# Altium schematic symbol library PCB_Connector_Sch.SchLib: 3 symbols
Pins are listed as number, name and electrical type; pins without a type are passive.

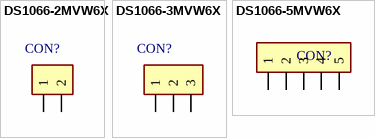
[diagram p0: symbols DS1066-2MVW6X to DS1066-5MVW6X]

## DS1066-2MVW6X
designator CON?
CON.T.B.2.00MM 2P 180C MALE CONNFLY
footprint DS1066-2MVW6X (2mm pitch)
pins: 1, 2

## DS1066-3MVW6X
designator CON?
CON.T.B.2.00MM 2P 180C MALE CONNFLY
footprint DS1066-3MVW6X (2mm pitch)
pins: 1, 2, 3

## DS1066-5MVW6X
designator CON?, comment DS1066  (value not drawn)
CON.T.B.2.00MM 5P 180C MALE CONNFLY
footprint DS1066-5MVW6X (2mm pitch)
pins: 1, 2, 3, 4, 5